# Altium footprint library SmartHalo_Footprints.PcbLib: 114 footprints (part 7 of 8)
Each footprint in its own frame and in the unit in brackets; x right, y up, seen from the top. Pads: shape width x height; smd on the part's side, far side on the other; paste and mask are expansions set on the pad; w line width, h text height; cw(c..) or ccw(c..) is an arc to the next point about the centre after c.
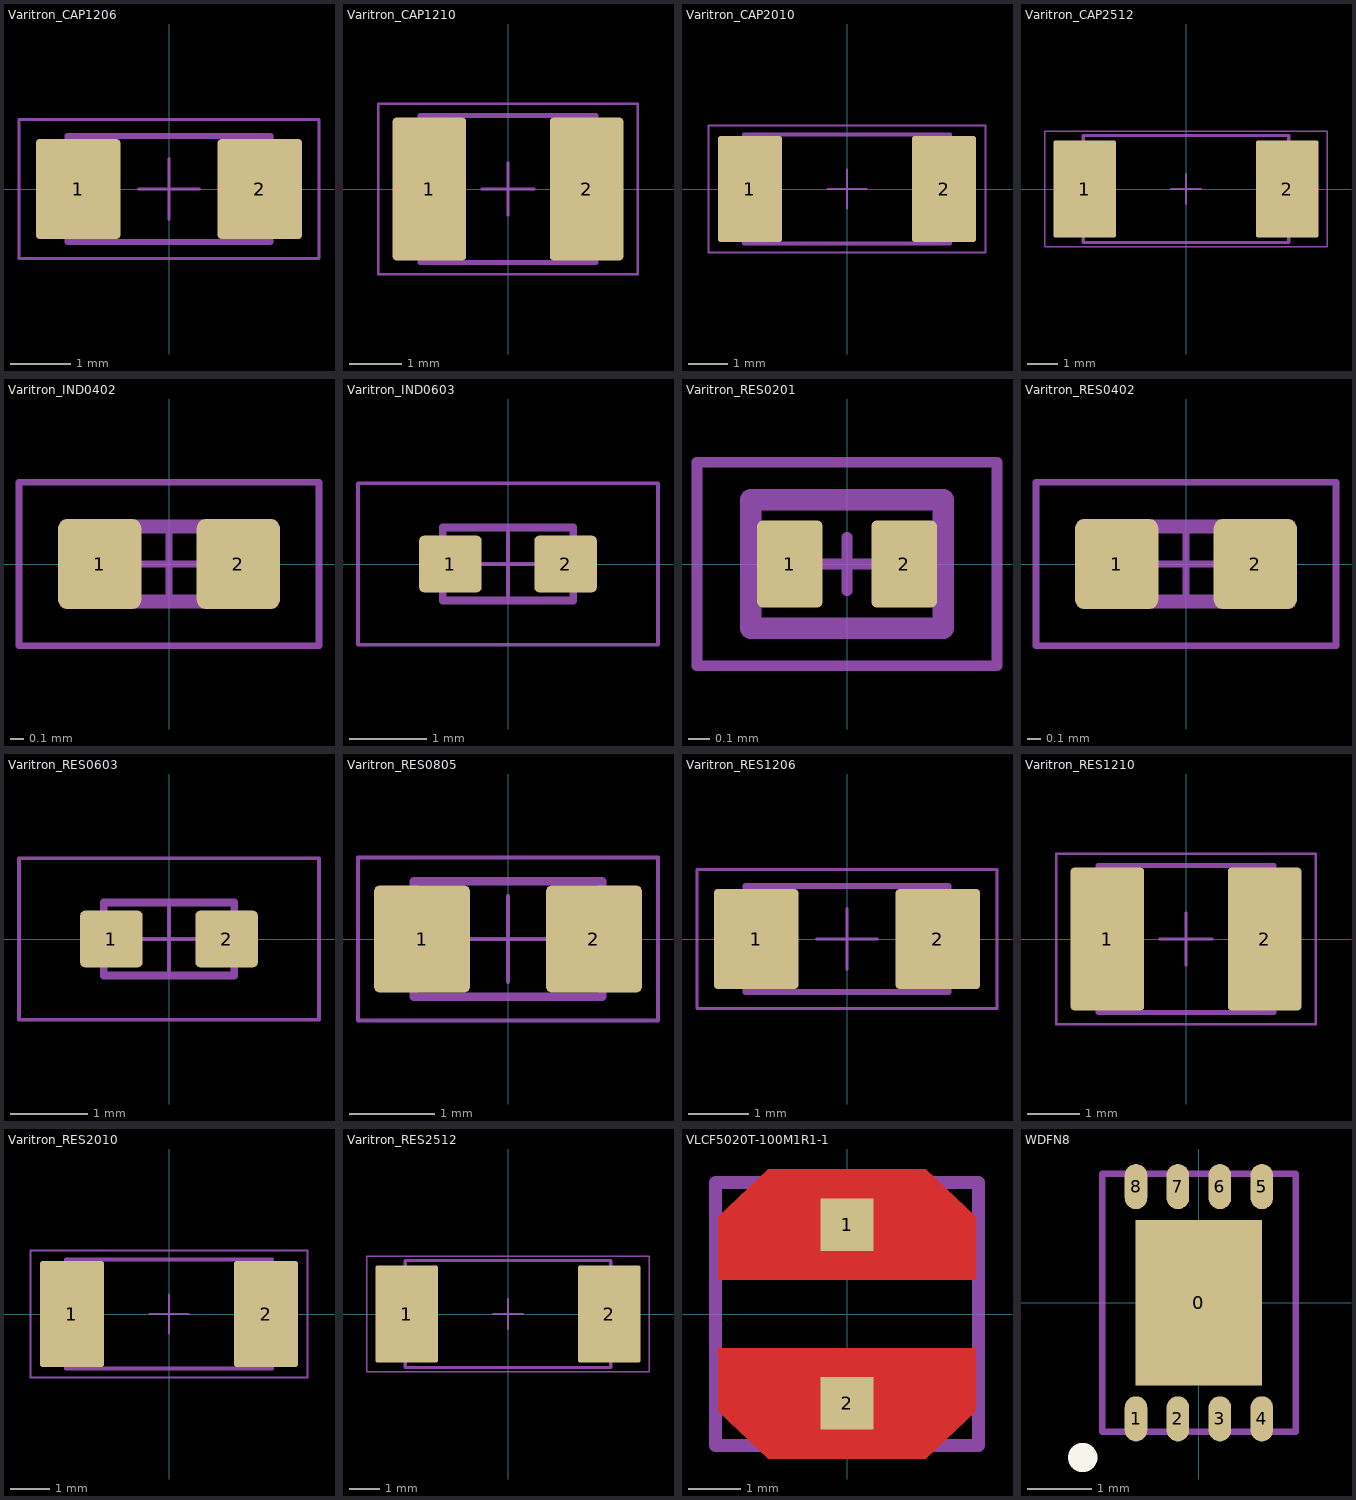
[diagram p6: the footprints below, top view; thin cyan lines are the x and y axes]

## Varitron_CAP1206 [mil] "Capacitor 1206(3216), max 1mm height"
height 39.37
pads (2):
  rrect9% 55x65 smd: 1(-59,0) 2(59,0)
3D Top:
  lines w3.94: -65.94,-34.45 -65.94,34.45 65.94,34.45 65.94,-34.45 -65.94,-34.45
Courtyard Top:
  lines w1.97: -19.68,0 19.68,0 ; 0,-19.68 0,19.68 ; -97.44,-45.28 -97.44,45.28 97.44,45.28 97.44,-45.28 -97.44,-45.28
3D body: height 39.37, standoff 0, extent -46.26,-34.45 46.26,34.45
3D body: height 39.37, standoff 0, extent -65.94,-34.45 -46.26,34.45
3D body: height 39.37, standoff 0, extent 46.26,-34.45 65.94,34.45

## Varitron_CAP1210 [mil] "Capacitor 1210(3225), max 1mm height"
height 39.37
pads (2):
  rrect9% 55x107 smd: 1(-59,0) 2(59,0)
3D Top:
  lines w3.94: -65.94,-55.12 65.94,-55.12 65.94,55.12 -65.94,55.12 -65.94,-55.12
Courtyard Top:
  lines w1.97: -19.68,0 19.68,0 ; 0,-19.68 0,19.68 ; -97.44,-63.98 -97.44,63.98 97.44,63.98 97.44,-63.98 -97.44,-63.98
3D body: height 39.37, standoff 0, extent -46.26,-55.12 46.26,55.12
3D body: height 39.37, standoff 0, extent -65.94,-55.12 -46.26,55.12
3D body: height 39.37, standoff 0, extent 46.26,-55.12 65.94,55.12

## Varitron_CAP2010 [mil] "Capacitor 2010(5025), max 1mm height"
height 39.37
pads (2):
  rrect8% 65x107 smd: 1(-98,0) 2(98,0)
3D Top:
  lines w3.94: -104.33,-55.12 104.33,-55.12 104.33,55.12 -104.33,55.12 -104.33,-55.12
Courtyard Top:
  lines w1.97: -19.68,0 19.68,0 ; 0,-19.68 0,19.68 ; -140,-63.98 -140,64 140,63.98 140,-63.98 -140,-63.98
3D body: height 39.37, standoff 0, extent -85,-55.12 86,55.12
3D body: height 39.37, standoff 0, extent -104.86,-55.12 -85.13,55.12
3D body: height 39.37, standoff 0, extent 86,-55.12 104.33,55.12

## Varitron_CAP2512 [mil] "Capacitor 2512(6432), max 1.2mm height"
height 47.24
pads (2):
  rrect6% 80x125 smd: 1(-130,0) 2(130,0)
3D Top:
  lines w3.94: -131.89,-68.9 131.89,-68.9 131.89,68.9 -131.89,68.9 -131.89,-68.9
Courtyard Top:
  lines w1.97: -19.68,0 19.68,0 ; 0,-19.68 0,19.68 ; -181.1,-73.82 181.1,-73.82 181.1,73.82 -181.1,73.82 -181.1,-73.82
3D body: height 47.24, standoff 0, extent 112.2,-68.9 131.89,68.9
3D body: height 47.24, standoff 0, extent -131.89,-68.9 -112.2,68.9
3D body: height 47.24, standoff 0, extent -112.2,-68.9 112.2,68.9

## Varitron_IND0402 [mil] "Inductor 0402(1005), max 1mm height"
height 39.37
pads (2):
  rrect21% 24x26 smd: 1(-20,0) 2(20,0)
3D Top:
  lines w3.94: -20.67,-10.83 -20.67,10.83 20.67,10.83 20.67,-10.83 -20.67,-10.83
Courtyard Top:
  lines w1.97: -10.83,0 10.83,0 ; 0,-10.83 0,10.83 ; -43.31,-23.62 43.31,-23.62 43.31,23.62 -43.31,23.62 -43.31,-23.62
3D body: height 39.37, standoff 0, extent 11.81,-10.83 20.67,10.83
3D body: height 39.37, standoff 0, extent -20.67,-10.83 -11.81,10.83
3D body: height 39.37, standoff 0, extent -11.81,-10.83 11.81,10.83

## Varitron_IND0603 [mil] "Inductor 0603(1608), max 1mm height"
height 39.37
pads (2):
  rrect17% 32x29 smd: 1(-29.5,0) 2(29.5,0)
3D Top:
  lines w3.94: -33.46,-18.7 33.46,-18.7 33.46,18.7 -33.46,18.7 -33.46,-18.7
Courtyard Top:
  lines w1.97: -18.7,0 18.7,0 ; 0,-18.7 0,18.7 ; -76.77,-41.34 -76.77,41.34 76.77,41.34 76.77,-41.34 -76.77,-41.34
3D body: height 39.37, standoff 0, extent -23.62,-18.7 23.62,18.7
3D body: height 39.37, standoff 0, extent -33.46,-18.7 -23.62,18.7
3D body: height 39.37, standoff 0, extent 23.62,-18.7 33.46,18.7

## Varitron_RES0201 [mil] "Resistor 0201(0603), max 1mm height"
height 39.37
pads (2):
  rrect17% 12x16 smd mask+2: 1(-10.5,0) 2(10.5,0)
3D Top:
  lines w3.94: -17.72,-11.81 17.72,-11.81 17.71,11.8 -17.72,11.81 -17.72,-11.81
Courtyard Top:
  lines w1.97: -4.92,0 4.92,0 ; 0,-4.92 0,4.92 ; -27.56,-18.7 27.56,-18.7 27.56,18.7 -27.56,18.7 -27.56,-18.7
3D body: height 39.37, standoff 0, extent 9.84,-11.81 17.72,11.81
3D body: height 39.37, standoff 0, extent -17.72,-11.81 -9.84,11.81
3D body: height 39.37, standoff 0, extent -9.84,-11.81 9.84,11.81

## Varitron_RES0402 [mil] "Resistor 0402(1005), max 1mm height"
height 39.37
pads (2):
  rrect21% 24x26 smd: 1(-20,0) 2(20,0)
3D Top:
  lines w3.94: -20.67,-10.83 -20.67,10.83 20.67,10.83 20.67,-10.83 -20.67,-10.83
Courtyard Top:
  lines w1.97: -10.83,0 10.83,0 ; 0,-10.83 0,10.83 ; -43.31,-23.62 43.31,-23.62 43.31,23.62 -43.31,23.62 -43.31,-23.62
3D body: height 39.37, standoff 0, extent 11.81,-10.83 20.67,10.83
3D body: height 39.37, standoff 0, extent -20.67,-10.83 -11.81,10.83
3D body: height 39.37, standoff 0, extent -11.81,-10.83 11.81,10.83

## Varitron_RES0603 [mil] "Resistor 0603(1608), max 1mm height"
height 39.37
pads (2):
  rrect17% 32x29 smd: 1(-29.5,0) 2(29.5,0)
3D Top:
  lines w3.94: -33.46,-18.7 33.46,-18.7 33.46,18.7 -33.46,18.7 -33.46,-18.7
Courtyard Top:
  lines w1.97: -18.7,0 18.7,0 ; 0,-18.7 0,18.7 ; -76.77,-41.34 -76.77,41.34 76.77,41.34 76.77,-41.34 -76.77,-41.34
3D body: height 39.37, standoff 0, extent -23.62,-18.7 23.62,18.7
3D body: height 39.37, standoff 0, extent -33.46,-18.7 -23.62,18.7
3D body: height 39.37, standoff 0, extent 23.62,-18.7 33.46,18.7

## Varitron_RES0805 [mil] "Resistor 0805(2012), max 1mm height"
height 39.37
pads (2):
  rrect11% 44x49 smd: 1(-39.5,0) 2(39.5,0)
3D Top:
  lines w3.94: -43.31,-26.57 43.31,-26.57 43.31,26.57 -43.31,26.57 -43.31,-26.57
Courtyard Top:
  lines w1.97: -19.68,0 19.68,0 ; 0,-19.68 0,19.68 ; -68.9,-37.4 68.9,-37.4 68.9,37.4 -68.9,37.4 -68.9,-37.4
3D body: height 39.37, standoff 0, extent 26.58,-26.57 43.31,26.58
3D body: height 39.37, standoff 0, extent -43.31,-26.57 -26.57,26.57
3D body: height 39.37, standoff 0, extent -26.57,-26.57 26.58,26.58

## Varitron_RES1206 [mil] "Resistor 1206(3216), max 1mm height"
height 39.37
pads (2):
  rrect9% 55x65 smd: 1(-59,0) 2(59,0)
3D Top:
  lines w3.94: -65.94,-34.45 -65.94,34.45 65.94,34.45 65.94,-34.45 -65.94,-34.45
Courtyard Top:
  lines w1.97: -19.68,0 19.68,0 ; 0,-19.68 0,19.68 ; -97.44,-45.28 -97.44,45.28 97.44,45.28 97.44,-45.28 -97.44,-45.28
3D body: height 39.37, standoff 0, extent -46.26,-34.45 46.26,34.45
3D body: height 39.37, standoff 0, extent -65.94,-34.45 -46.26,34.45
3D body: height 39.37, standoff 0, extent 46.26,-34.45 65.94,34.45

## Varitron_RES1210 [mil] "Resistor 1210(3225), max 1mm height"
height 39.37
pads (2):
  rrect9% 55x107 smd: 1(-59,0) 2(59,0)
3D Top:
  lines w3.94: -65.94,-55.12 -65.94,55.12 65.94,55.12 65.94,-55.12 -65.94,-55.12
Courtyard Top:
  lines w1.97: -19.68,0 19.68,0 ; 0,-19.68 0,19.68 ; -97.44,-63.98 97.44,-63.98 97.44,63.98 -97.44,63.98 -97.44,-63.98
3D body: height 39.37, standoff 0, extent 46.26,-55.12 65.94,55.12
3D body: height 39.37, standoff 0, extent -65.94,-55.12 -46.26,55.12
3D body: height 39.37, standoff 0, extent -46.26,-55.12 46.26,55.12

## Varitron_RES2010 [mil] "Resistor 2010(5025), max 1mm height"
height 39.37
pads (2):
  rrect8% 65x107 smd: 1(-98,0) 2(98,0)
3D Top:
  lines w3.94: -104.33,-55.12 -104.33,55.12 104.33,55.12 104.33,-55.12 -104.33,-55.12
Courtyard Top:
  lines w1.97: -19.68,0 19.68,0 ; 0,-19.68 0,19.68 ; -140,-63.98 140,-63.98 140,63.98 -140,64 -140,-63.98
3D body: height 39.37, standoff 0, extent 86,-55.12 104.33,55.12
3D body: height 39.37, standoff 0, extent -104.86,-55.12 -85.13,55.12
3D body: height 39.37, standoff 0, extent -85,-55.12 86,55.12

## Varitron_RES2512 [mil] "Resistor 2512(6432), max 1.2mm height"
height 47.24
pads (2):
  rrect6% 80x125 smd: 1(-130,0) 2(130,0)
3D Top:
  lines w3.94: -131.89,-68.9 -131.89,68.9 131.89,68.9 131.89,-68.9 -131.89,-68.9
Courtyard Top:
  lines w1.97: -19.68,0 19.68,0 ; 0,-19.68 0,19.68 ; -181.1,-73.82 -181.1,73.82 181.1,73.82 181.1,-73.82 -181.1,-73.82
3D body: height 47.24, standoff 0, extent -112.2,-68.9 112.2,68.9
3D body: height 47.24, standoff 0, extent -131.89,-68.9 -112.2,68.9
3D body: height 47.24, standoff 0, extent 112.2,-68.9 131.89,68.9

## VLCF5020T-100M1R1-1 [mm] "IND SMT, 5 x 5 x 2 mm"
height 2
pads (2):
  rect 1x1 smd paste+0 mask+0: 1(0,1.7) 2(0,-1.7)
Top Layer:
  region: -2.45,0.65 -2.45,1.85 -1.5,2.75 1.5,2.75 2.45,1.85 2.45,0.65
  region: 2.45,-0.65 2.45,-1.85 1.5,-2.75 -1.5,-2.75 -2.45,-1.85 -2.45,-0.65
Top Paste:
  region: -2.45,0.65 -2.45,1.85 -1.5,2.75 1.5,2.75 2.45,1.85 2.45,0.65
  region: 2.45,-0.65 2.45,-1.85 1.5,-2.75 -1.5,-2.75 -2.45,-1.85 -2.45,-0.65
Top Solder:
  region: 2.552,-0.548 2.552,-1.952 1.602,-2.852 -1.602,-2.852 -2.552,-1.952 -2.552,-0.548
  region: -2.552,0.548 -2.552,1.952 -1.612,2.852 1.592,2.852 2.552,1.952 2.552,0.548
3D Top:
  lines w0.254: -2.5,-2.5 2.5,-2.5 2.5,2.5 -2.5,2.5 -2.5,-2.5
3D body: height 2, standoff 0, extent -2.5,-2.5 2.5,2.5

## WDFN8 [mm] "WDFN8, 3 x 4 mm, 8 pins, 0.7 x 0.35 mm pads, 0.65 x 3.6 mm pitch"
height 0.02
pads (9):
  rect 1.96x2.56 smd mask+0.051: 0(0,0)
  oval 0.35x0.7 smd mask+0.051: 1(-0.975,-1.8) 2(-0.325,-1.8) 3(0.325,-1.8) 4(0.975,-1.8) 5(0.975,1.8) 6(0.325,1.8) 7(-0.325,1.8) 8(-0.975,1.8)
Top Overlay:
  circle w0.254: c-1.8,-2.4 r0.1
3D Top:
  lines w0.1: -1.5,-2 1.5,-2 1.5,2 -1.5,2 -1.5,-2
3D body: height 0.8, standoff 0.05, extent -1.5,-2 1.5,2